# Altium schematic symbol library PESDxS2UT.Schlib: 1 symbol
Pins are listed as number, name and electrical type; pins without a type are passive.

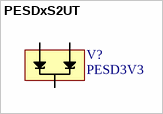
[diagram p0: symbol PESDxS2UT]

## PESDxS2UT
designator V?, comment PESD3V3
pins: 1 C1 "Cathod 1", 2 C2 "Cathod 2", 3 C3 "Common anode"